# Altium schematic symbol library MCU_14X10.A.3.Schlib: 1 symbol
Pins are listed as number, name and electrical type; pins without a type are passive.

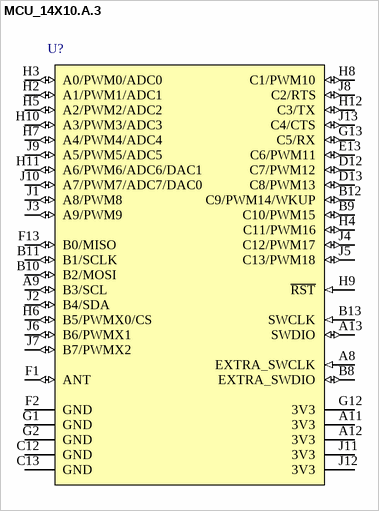
[diagram p0: symbol MCU_14X10.A.3]

## MCU_14X10.A.3
designator U?
MCU_14X10.A.3
pins: A8 EXTRA_SWCLK (in), A9 B3/SCL (io), A11 3V3 (power), A12 3V3 (power), A13 SWDIO (io), B8 EXTRA_SWDIO (io), B9 C10/PWM15 (io), B10 B2/MOSI (io), B11 B1/SCLK (io), B12 C9/PWM14/WKUP (io), B13 SWCLK (in), C12 GND (power), C13 GND (power), D12 C7/PWM12 (io), D13 C8/PWM13 (io), E13 C6/PWM11 (io), F1 ANT (io), F2 GND (power), F13 B0/MISO (io), G1 GND (power), G2 GND (power), G12 3V3 (power), G13 C5/RX (io), H2 A1/PWM1/ADC1 (io), H3 A0/PWM0/ADC0 (io), H4 C11/PWM16 (io), H5 A2/PWM2/ADC2 (io), H6 B5/PWMX0/CS (io), H7 A4/PWM4/ADC4 (io), H8 C1/PWM10 (io), H9 ~{RST} (in), H10 A3/PWM3/ADC3 (io), H11 A6/PWM6/ADC6/DAC1 (io), H12 C3/TX (io), J1 A8/PWM8 (io), J2 B4/SDA (io), J3 A9/PWM9 (io), J4 C12/PWM17 (io), J5 C13/PWM18 (io), J6 B6/PWMX1 (io), J7 B7/PWMX2 (io), J8 C2/RTS (io), J9 A5/PWM5/ADC5 (io), J10 A7/PWM7/ADC7/DAC0 (io), J11 3V3 (power), J12 3V3 (power), J13 C4/CTS (io)